# Altium schematic symbol library AOTA-B252010S4R7MT.SchLib: 1 symbol
Pins are listed as number, name and electrical type; pins without a type are passive.

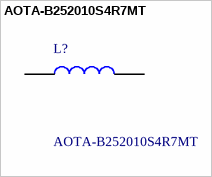
[diagram p0: symbol AOTA-B252010S4R7MT]

## AOTA-B252010S4R7MT
designator L?
IND 4.7uH 1.6A 136; Manufacturer_Name: ABRACON; Geometry.Height: 1mm; Manufacturer_Part_Number: AOTA-B252010S4R7MT; Mouser Part Number: 815-AOTB252010S4R7MT; Mouser Price/Stock: https://www.mouser.co.uk/ProductDetail/ABRACON/AOTA-B252010S4R7MT?qs=1Kr7Jg1SGW%252BanMseqqhMIg%3D%3D; Arrow Part Number: AOTA-B252010S4R7MT; Arrow Price/Stock: https://www.arrow.com/en/products/aota-b252010s4r7mt/abracon?region=europe; Datasheet Link: https://abracon.com/datasheets/AOTA-B252010S.pdf
footprint INDC2520X100N
pins: 1, 2